# EAGLE library part SD8223L (library Deegou_IC)
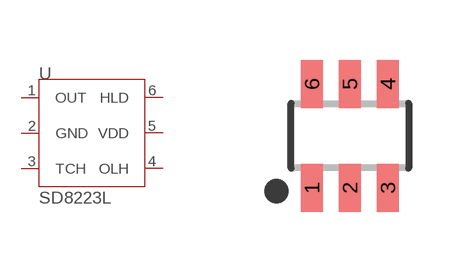
[diagram p10: symbol with the pads of SOT23-6; footprint SOT23-6]

Designator prefix U

## SD8223L  [SOT23-6]
1  OUT
2  GND
3  TCH
4  OLH
5  VDD
6  HLD

## Footprint SOT23-6 (pad centres in mm)
SOT-23 - DBV 0.95 mm pitch
smd 0.55 x 1.2: 1 -0.95,-1.3; 2 0,-1.3; 3 0.95,-1.3; 4 0.95,1.3; 5 0,1.3; 6 -0.95,1.3